# EAGLE library part BIGRGB (library 1dah)
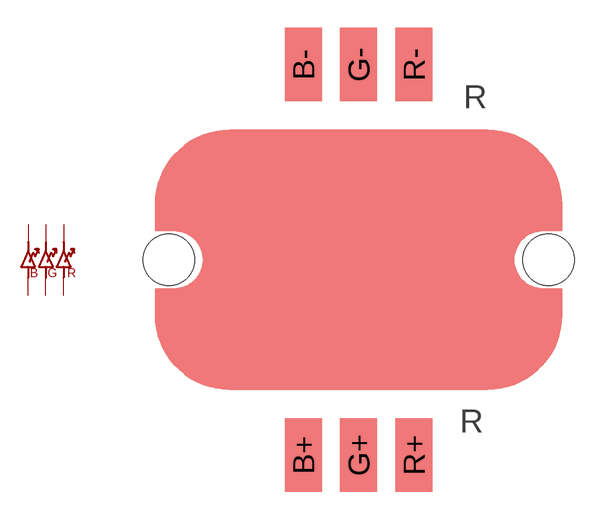
[diagram p34: symbol with the pads of BIGRGB; footprint BIGRGB]

Designator prefix -

## BIGRGB  [BIGRGB]
B+  B+
B-  B-
G+  G+
G-  G-
R+  R+
R-  R-

## Footprint BIGRGB (pad centres in mm)
smd 2 x 4: B+ -3,-10.6; B- -3,10.6; G+ 0,-10.6; G- 0,10.6; R+ 3,-10.6; R- 3,10.6
hole 2.8 at -10.3,0
hole 2.8 at 10.3,0